# Altium schematic symbol library 10uF_0603_Murata.SchLib: 1 symbol
Pins are listed as number, name and electrical type; pins without a type are passive.

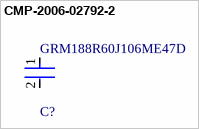
[diagram p0: symbol CMP-2006-02792-2]

## CMP-2006-02792-2
designator C?, comment GRM188R60J106ME47D
Chip Multilayer Ceramic Capacitors for General Purpose, 0603, 10uF, X5R, 15%, 20%, 6.3V; Packaging: Tape and Reel; Voltage Rating (DC): 6.3V; Width: 0.031inch; Termination: SMD/SMT; Dielectric: X5R; Package Quantity: 4000; Voltage Rating: 6.3V; Capacitance: 10uF; Case/Package: 0603; Min Operating Temperature: -55°C; Voltage: 6.3V; Length: 1.6mm; Thickness: 0.035inch; Lead Free: Lead Free; Depth: 0.8mm; Case Code (Imperial): 0603; Max Operating Temperature: 85°C; Material: Ceramic; Height: 0.8mm; Tolerance: 20%; Mount: Surface Mount; REACH SVHC: No SVHC; Radiation Hardening: No; Case Code (Metric): 1608
footprint FP-GRM188-0_1-e0_2_0_55-IPC_C
footprint FP-GRM188-0_1-e0_2_0_55-MFG
footprint FP-GRM188-0_1-e0_2_0_55-IPC_B
footprint FP-GRM188-0_1-e0_2_0_55-IPC_A
pins: 1, 2